# EAGLE library part ESP12_BREAKOUT (library AutoPark)
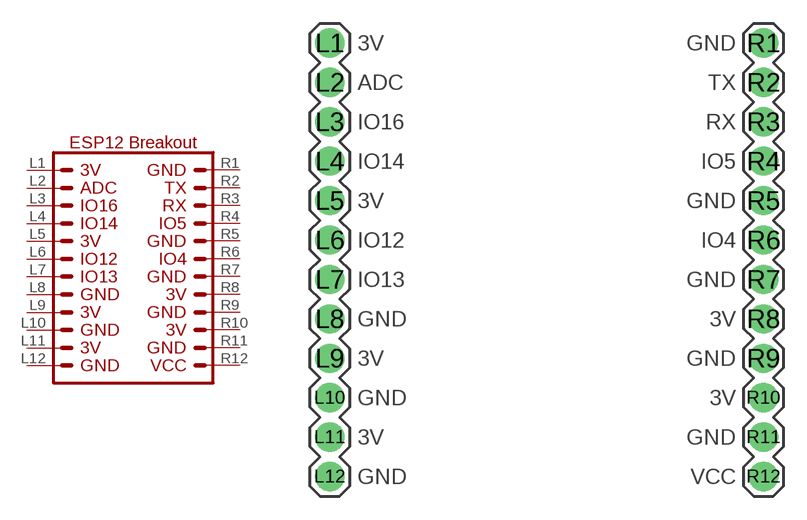
[diagram p4: symbol with the pads of ESP12_BREAKOUT_CONN; footprint ESP12_BREAKOUT_CONN]

Designator prefix -

## ESP12_BREAKOUT  [ESP12_BREAKOUT_CONN]
L1  L1  pas
L2  L2  pas
L3  L3  pas
L4  L4  pas
L5  L5  pas
L6  L6  pas
L7  L7  pas
L8  L8  pas
L9  L9  pas
L10  L10  pas
L11  L11  pas
L12  L12  pas
R1  R1  pas
R2  R2  pas
R3  R3  pas
R4  R4  pas
R5  R5  pas
R6  R6  pas
R7  R7  pas
R8  R8  pas
R9  R9  pas
R10  R10  pas
R11  R11  pas
R12  R12  pas

## Footprint ESP12_BREAKOUT_CONN (pad centres in mm)
Plated Through Hole -12 Pin Specifications: Pin count:12 Pin pitch:0.1" Example device(s): CONN_12
drill 1.016 pad 1.88: L1 1.27,29.21; L2 1.27,26.67; L3 1.27,24.13; L4 1.27,21.59; L5 1.27,19.05; L6 1.27,16.51; L7 1.27,13.97; L8 1.27,11.43; L9 1.27,8.89; L10 1.27,6.35; L11 1.27,3.81; L12 1.27,1.27; R1 29.21,29.21; R2 29.21,26.67; R3 29.21,24.13; R4 29.21,21.59; R5 29.21,19.05; R6 29.21,16.51; R7 29.21,13.97; R8 29.21,11.43; R9 29.21,8.89; R10 29.21,6.35; R11 29.21,3.81; R12 29.21,1.27